# Altium footprint library PSOC.PcbLib: 1 footprints
Each footprint in its own frame and in the unit in brackets; x right, y up, seen from the top. Pads: shape width x height; smd on the part's side, far side on the other; paste and mask are expansions set on the pad; w line width, h text height; cw(c..) or ccw(c..) is an arc to the next point about the centre after c.
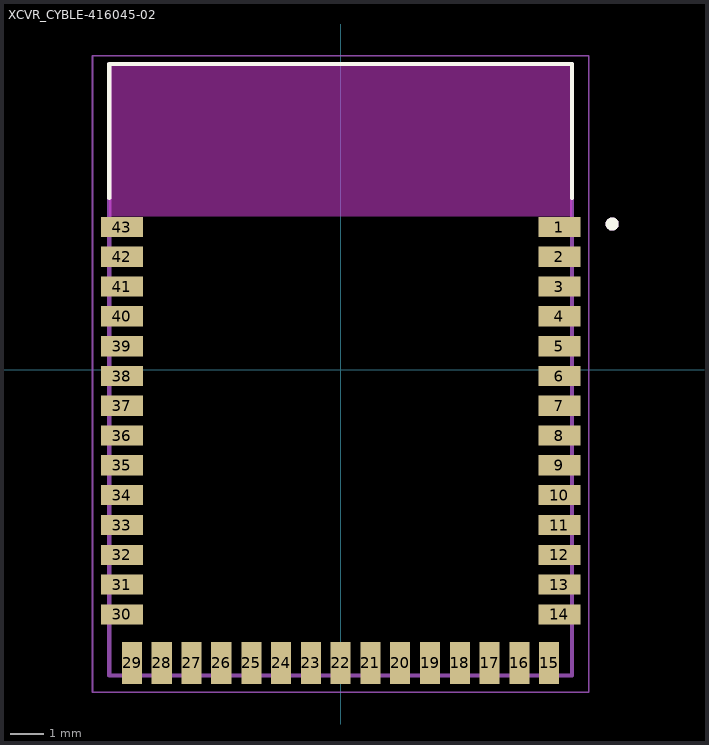
[diagram p0: the footprint, top view; thin cyan lines are the x and y axes]

## XCVR_CYBLE-416045-02 [mm]
pads (43):
  rect 1.27x0.61 smd: 1(6.62,4.32) 2(6.62,3.42) 3(6.62,2.52) 4(6.62,1.62) 5(6.62,0.71) 6(6.62,-0.19) 7(6.62,-1.09) 8(6.62,-1.99) 9(6.62,-2.89) 10(6.62,-3.79) 11(6.62,-4.7) 12(6.62,-5.6) 13(6.62,-6.5) 14(6.62,-7.4) 30(-6.62,-7.4) 31(-6.62,-6.5) 32(-6.62,-5.6) 33(-6.62,-4.7) 34(-6.62,-3.79) 35(-6.62,-2.89) 36(-6.62,-1.99) 37(-6.62,-1.09) 38(-6.62,-0.19) 39(-6.62,0.71) 40(-6.62,1.62) 41(-6.62,2.52) 42(-6.62,3.42) 43(-6.62,4.32)
  rect 0.61x1.27 smd: 15(6.31,-8.87) 16(5.41,-8.87) 17(4.51,-8.87) 18(3.61,-8.87) 19(2.71,-8.87) 20(1.8,-8.87) 21(0.9,-8.87) 22(0,-8.87) 23(-0.9,-8.87) 24(-1.8,-8.87) 25(-2.7,-8.87) 26(-3.61,-8.87) 27(-4.51,-8.87) 28(-5.41,-8.87) 29(-6.31,-8.87)
Top Overlay:
  circle w0.2: c8.216,4.41 r0.1
  lines w0.127: -7,5.2 -7,9.25 7,9.25 7,5.2
Keep-Out Layer:
  region: 7,4.65 -7,4.65 -7,9.25 7,9.25
  region: 7,4.65 -7,4.65 -7,9.25 7,9.25
  region: 7,4.65 -7,4.65 -7,9.25 7,9.25
Mechanical 13:
  circle w0.2: c8.215,4.41 r0.1
  lines w0.127: -7,-9.25 -7,9.25 7,9.25 7,-9.25 -7,-9.25
Mechanical 15:
  lines w0.05: -7.505,-9.755 7.505,-9.755 7.505,9.5 -7.505,9.5 -7.505,-9.755